# Altium schematic symbol library Graphic-Libs.SCHLIB: 1 symbol
Pins are listed as number, name and electrical type; pins without a type are passive.

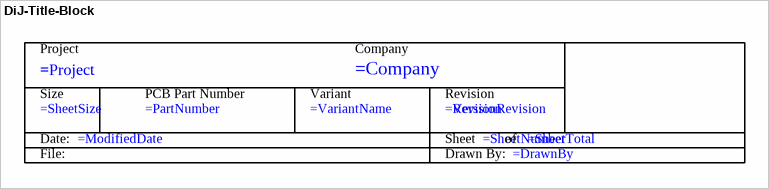
[diagram p0: symbol DiJ-Title-Block]

## DiJ-Title-Block
designator ?  (graphical)
Standard title block drawing; =SheetSize: *
text: Project; Company; Size; PCB Part Number; Variant; Revision; Date:; Sheet; of; File:; Drawn By: